# Altium schematic symbol library NCP164C.SchLib: 1 symbol
Pins are listed as number, name and electrical type; pins without a type are passive.

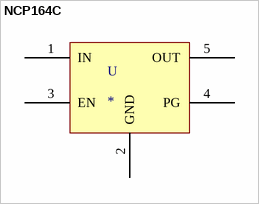
[diagram p0: symbol NCP164C]

## NCP164C
designator U
footprint SOT23-5 (SOT143-4 as used in SP0503BAHTG)
pins: 1 IN, 2 GND, 3 EN, 4 PG, 5 OUT